# Altium footprint library PFT Connector.PcbLib: 1 footprints
Each footprint in its own frame and in the unit in brackets; x right, y up, seen from the top. Pads: shape width x height; smd on the part's side, far side on the other; paste and mask are expansions set on the pad; w line width, h text height; cw(c..) or ccw(c..) is an arc to the next point about the centre after c.
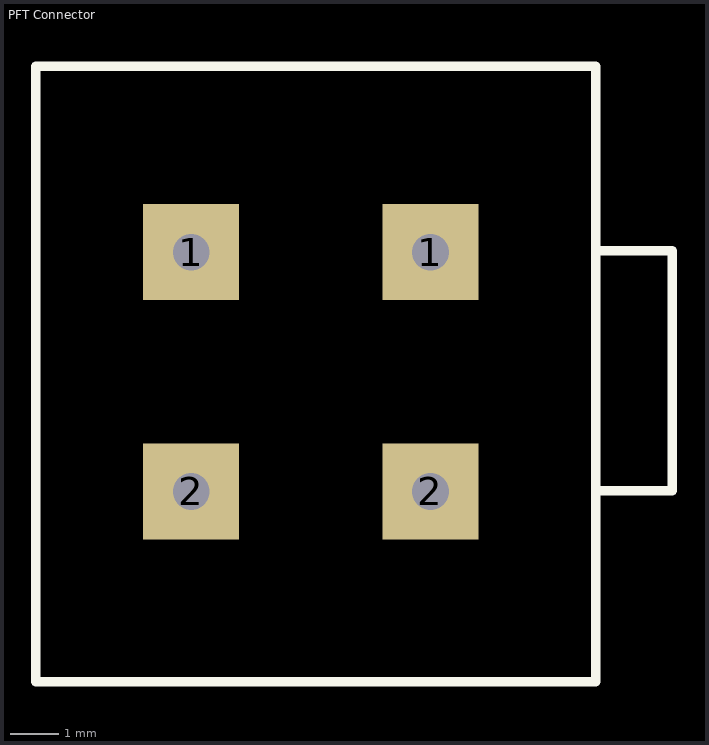
[diagram p0: the footprint, top view; thin cyan lines are the x and y axes]

## PFT Connector [mm]
pads (4):
  rect 2x2 hole 0.762: 1(4.99,9.98) 1(9.98,9.98) 2(4.99,4.99) 2(9.98,4.99)
Top Overlay:
  lines w0.2: 13.426,5.002 15.017,5.002 15.017,10.009 13.492,10.009 ; 1.754,1.023 1.754,13.855 13.426,13.855 13.426,1.023 1.754,1.023